# Altium schematic symbol library FBEAD.SchLib: 1 symbol
Pins are listed as number, name and electrical type; pins without a type are passive.

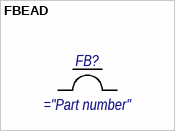
[diagram p0: symbol FBEAD]

## FBEAD
designator FB?
pins: 1, 2
1 alternate drawing of the same symbol